# Altium schematic symbol library LM1086.SchLib: 2 symbols
Pins are listed as number, name and electrical type; pins without a type are passive.

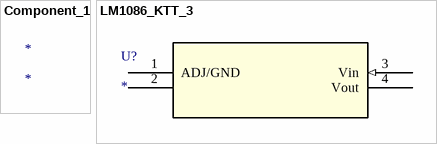
[diagram p0: symbols Component_1 to LM1086_KTT_3]

## Component_1
designator *

## LM1086_KTT_3
designator U?
Imported; PartNumber: LM1086CS-25; Comp: TypeLDO; Vendor: NationalSemiconductor; base_pn: LM1086; Symbol: NameLM1086CS-25; Library: ReferenceLM1086CS; Type: LM1086CS-2.5; Version: 1; Pin: Count3; Value: Value; RefDes: RefDes
footprint TS3B
pins: 1 ADJ/GND, 2 Vout, 3 Vin (in), 4 Vout